# EAGLE library part WE-TVS-SS_MSOP-8L_82401646 (library 824031815_Eagle_WE-TVS_rev20a)
WE-TVS TVS Diode – Super Speed Series Characteristics Fast turn-on Low clamping voltage Very low capacitance Rail to Rail protection Small package Epoxy flame resistant UL94-V0 Applications Super Speed data lines HDMI 1.3/1.4/2.0, DVI DisplayPort USB 3.1 Gen 1 (5Gb/s) SATA and eSATA GBit LAN Thunderbolt LVDS ESD protection in accordance with EN 61000-4-2 – 8 kV contact discharge – 15 kV air discharge SS = Super Speed <https://katalog.we-online.com/media/images/v2/o106434v209%20Family_WE-TVS-SuperSpeed.jpg> Details see: https://katalog.we-online.com/en/pbs/WE-TVS-SS Updated by Ella Wu 2019-07-12 2019 (C) Wurth Elektronik
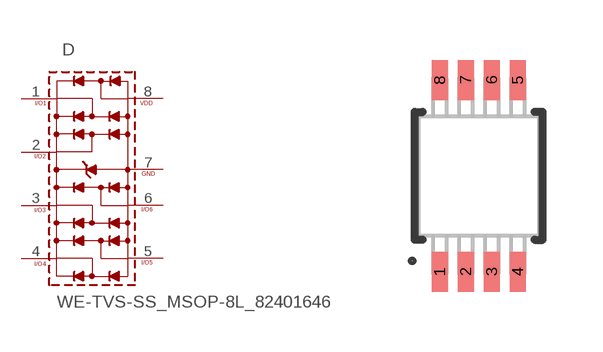
[diagram p15: symbol with the pads of WE-TVS_MSOP-8L; footprint WE-TVS_MSOP-8L]

Designator prefix D

## WE-TVS-SS_MSOP-8L_82401646 (C-CH: 0.2pF; CHANNELS: 6+1; DATASHEET-URL: https://www.we-online.com/catalog/datasheet/82401646.pdf; IPEAK: 2.5A; MOUNT: SMT; PART-NUMBER: 82401646; VALUE: 5Vdc; VBR: 6V)  [WE-TVS_MSOP-8L]
1  I/O1  pas
2  I/O2  pas
3  I/O3  pas
4  I/O4  pas
5  I/O5  pas
6  I/O6  pas
7  GND  pas
8  VDD  pas

## Footprint WE-TVS_MSOP-8L (pad centres in mm)
WE-TVS TVS Diode Size: MSOP-8L L X W X H = 4.9mm X 3mm X 0.975mm
smd 0.4 x 1: 1 -0.975,-2.4; 2 -0.325,-2.4; 3 0.325,-2.4; 4 0.975,-2.4; 5 0.975,2.4; 6 0.325,2.4; 7 -0.325,2.4; 8 -0.975,2.4